# EAGLE library part DF13-4 (library Taylor)
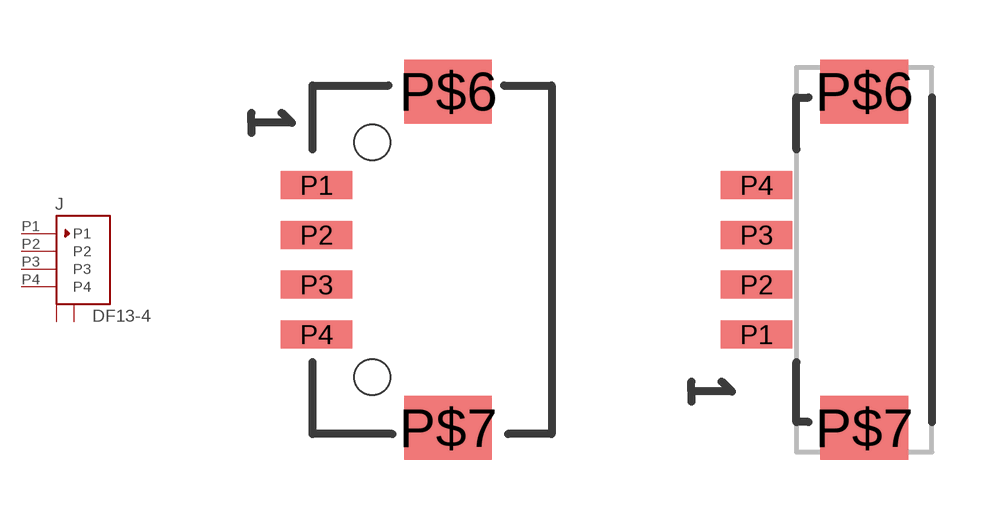
[diagram p5: symbol with the pads of DF13-4; footprints DF13-4, DF13-4-VERT]

Designator prefix J

## DF13-4HORIZONTAL  [DF13-4]
P1  P1
P2  P2
P3  P3
P4  P4
P$6  TAB
P$7  TAB

## DF13-4VERTICAL  [DF13-4-VERT]
Pads as for DF13-4

## Footprint DF13-4 (pad centres in mm)
smd 1.8 x 0.7: P1 -0.9,1.875; P2 -0.9,0.625; P3 -0.9,-0.625; P4 -0.9,-1.875
smd 2.2 x 1.6: P$6 2.4,4.225; P$7 2.4,-4.225
hole 0.9 at 0.5,2.95
hole 0.9 at 0.5,-2.95

## Footprint DF13-4-VERT (pad centres in mm)
smd 1.8 x 0.7: P1 -0.9,-1.845; P2 -0.9,-0.595; P3 -0.9,0.655; P4 -0.9,1.905
smd 2.2 x 1.6: P$6 1.8,4.255; P$7 1.8,-4.195